# EAGLE library part EXB2HV (library Bauteile)
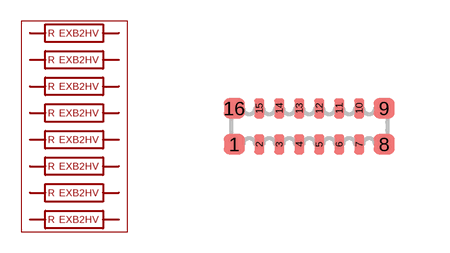
[diagram p223: symbol with the pads of EXB2HV; footprint EXB2HV]

Designator prefix R

## EXB2HV  [EXB2HV]
1  1.1
2  2.1
3  3.1
4  4.1
5  5.1
6  6.1
7  7.1
8  8.1
9  8.2
10  7.2
11  6.2
12  5.2
13  4.2
14  3.2
15  2.2
16  1.2

## Footprint EXB2HV (pad centres in mm)
smd 0.525 x 0.5: 1 -1.875,-0.45; 8 1.875,-0.45; 9 1.875,0.45; 16 -1.875,0.45
smd 0.25 x 0.5: 2 -1.25,-0.45; 3 -0.75,-0.45; 4 -0.25,-0.45; 5 0.25,-0.45; 6 0.75,-0.45; 7 1.25,-0.45; 10 1.25,0.45; 11 0.75,0.45; 12 0.25,0.45; 13 -0.25,0.45; 14 -0.75,0.45; 15 -1.25,0.45